# Altium footprint library zhangchong.PcbLib: 17 footprints (part 1 of 2)
Each footprint in its own frame and in the unit in brackets; x right, y up, seen from the top. Pads: shape width x height; smd on the part's side, far side on the other; paste and mask are expansions set on the pad; w line width, h text height; cw(c..) or ccw(c..) is an arc to the next point about the centre after c.
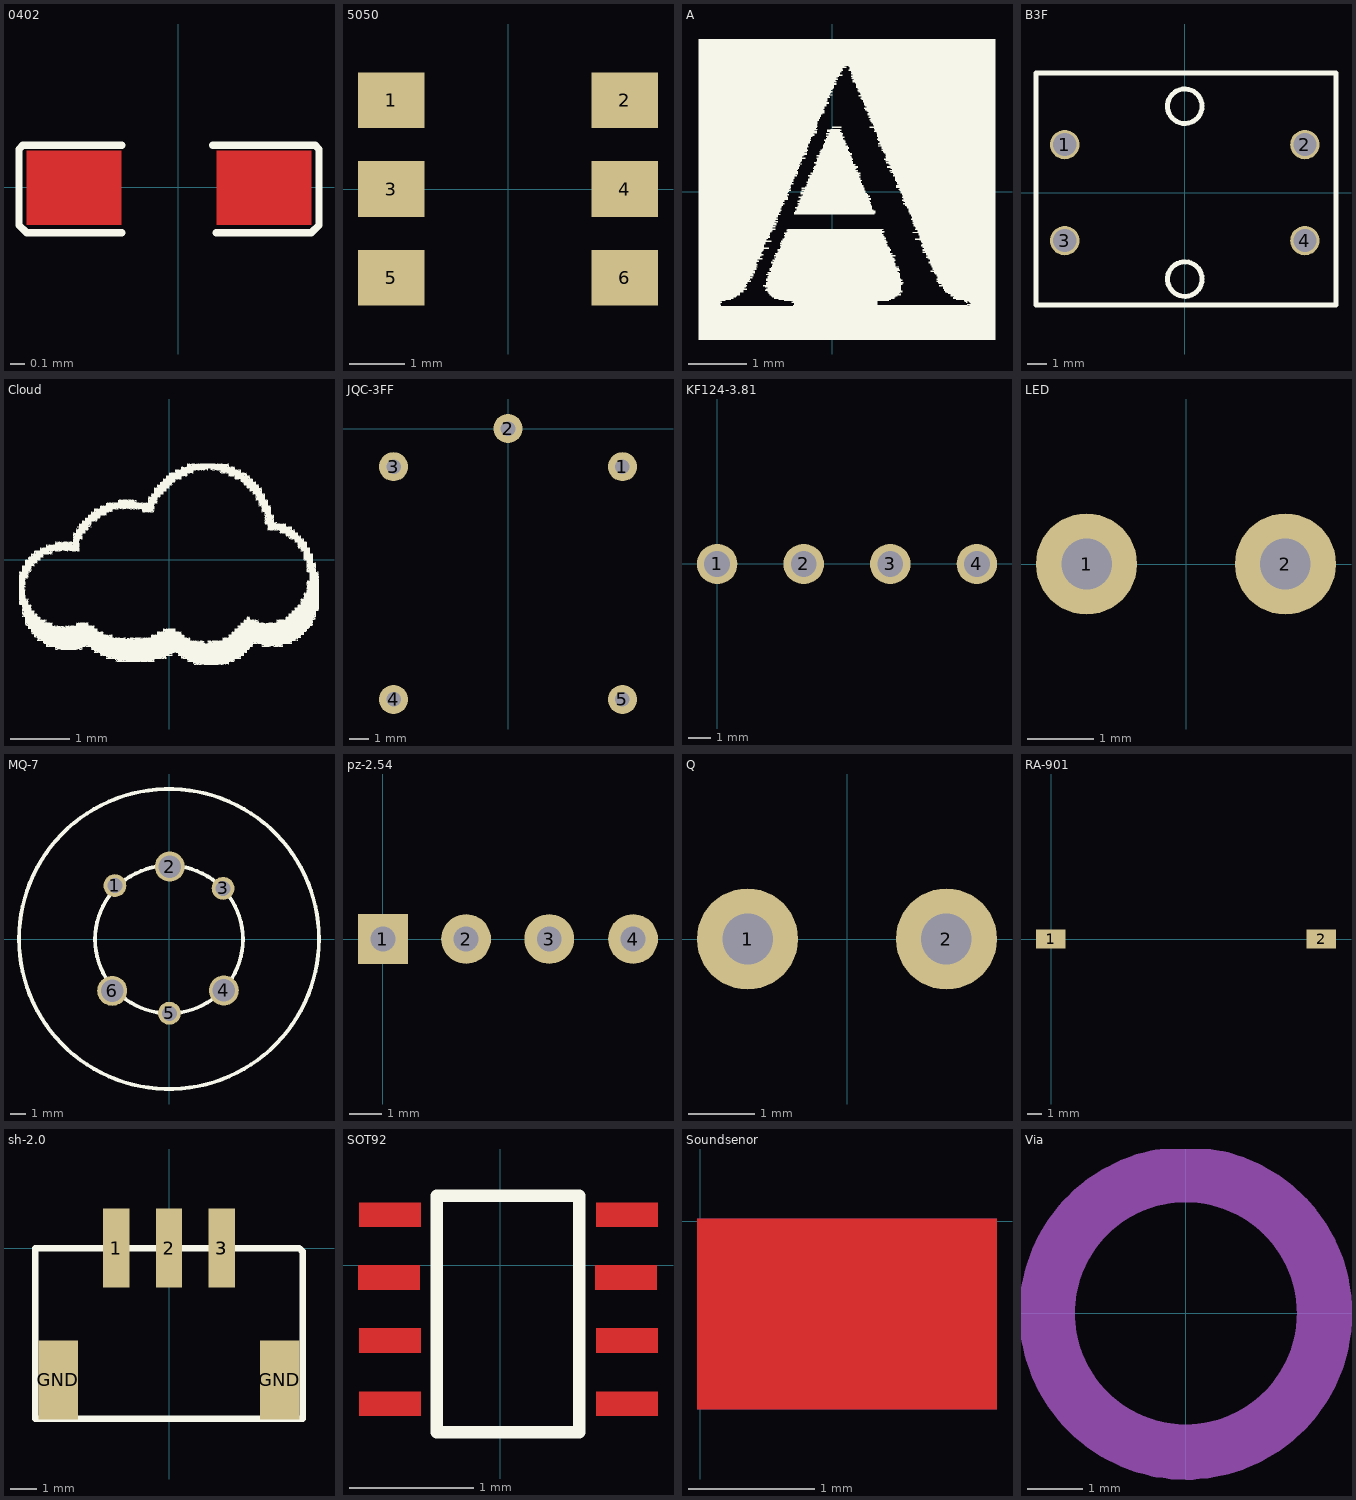
[diagram p0: the footprints below, top view; thin cyan lines are the x and y axes]

## 0402 [mm]
Top Layer:
  rectangle: 0.254,-0.254 0.889,0.246
  rectangle: -1.016,-0.254 -0.381,0.246
Top Overlay:
  lines w0.05: -0.381,-0.305 -1.016,-0.305 -1.067,-0.254 -1.067,0.254 -1.041,0.279 -0.381,0.279 ; 0.229,0.279 0.914,0.279 0.94,0.254 0.94,-0.254 0.889,-0.305 0.254,-0.305
Top Paste:
  rectangle: 0.254,-0.254 0.889,0.254
  rectangle: -1.016,-0.254 -0.381,0.254
Top Solder:
  rectangle: 0.254,-0.254 0.889,0.254
  rectangle: -1.016,-0.254 -0.381,0.254

## 5050 [mm]
pads (6):
  rect 1.2x1 smd: 1(-2.1,1.6) 2(2.1,1.6) 3(-2.1,0) 4(2.1,0) 5(-2.1,-1.6) 6(2.1,-1.6)

## A [mm]
Top Overlay:
  drawing of 1192 lines, arcs and shapes, not listed

## B3F [mm]
pads (4):
  round 1.524 hole 1.2: 1(-6.25,2.5) 2(6.25,2.5) 3(-6.25,-2.5) 4(6.25,-2.5)
Top Overlay:
  circle w0.254: c0,-4.5 r0.9
  circle w0.254: c0,4.5 r0.9
  lines w0.254: -7.747,-5.842 -7.747,6.223 7.874,6.223 7.874,-5.842 -7.747,-5.842

## Cloud [mm]
Top Overlay:
  drawing of 4885 lines, arcs and shapes, not listed

## JQC-3FF [mil]
pads (5):
  round 60 hole 30: 1(236.22,-78.74) 2(0,0) 3(-236.22,-78.74) 4(-236.22,-559.06) 5(236.22,-559.06)

## KF124-3.81 [mil]
pads (4):
  round 70 hole 45: 1(0,0) 2(150,0) 3(300,0) 4(450,0)

## LED [mil]
pads (2):
  round 60 hole 30: 1(-59.06,0) 2(59.06,0)

## MQ-7 [mil]
pads (6):
  round 60 hole 39.37: 1(-142,140) 3(142,133) 5(1,-195)
  round 78.74 hole 59.06: 2(2,190) 4(144,-135) 6(-149,-136)
Top Overlay:
  circle w10: c0,0 r393.7
  circle w10: c0,-1 r194

## pz-2.54 [mil]
pads (4):
  rect 60x60 hole 30: 1(0,0)
  round 60 hole 30: 2(100,0) 3(200,0) 4(300.79,0)

## Q [mil]
pads (2):
  round 60 hole 30: 1(-59.06,0) 2(59.06,0)

## RA-901 [mm]
pads (2):
  rect 2x1.3 smd: 1(-0.025,0) 2(18.2,0)

## sh-2.0 [mm]
pads (6):
  rect 1x3 smd: 1(-2,0) 2(0,0) 3(2,0) 3(2,0)
  rect 1.5x3 smd: GND(-4.2,-5) GND(4.2,-5)
Top Overlay:
  lines w0.254: -5.08,-6.477 -5.08,0 4.953,0 5.08,-0.127 5.08,-6.477 -5.08,-6.477

## SOT92 [mm]
Top Layer:
  rectangle: 0.77,0.305 1.27,0.505
  rectangle: 0.762,-0.2 1.262,0
  rectangle: 0.77,-0.708 1.27,-0.508
  rectangle: 0.77,-1.216 1.27,-1.016
  rectangle: -1.135,-1.216 -0.635,-1.016
  rectangle: -1.135,-0.708 -0.635,-0.508
  rectangle: -1.143,-0.2 -0.643,0
  rectangle: -1.135,0.305 -0.635,0.505
Top Overlay:
  lines w0.1: -0.508,-1.346 -0.508,0.559 0.635,0.559 0.635,-1.346 -0.508,-1.346

## Soundsenor [mm]
Top Layer:
  rectangle: -0.025,-1.499 2.362,0.025
Bottom Layer:
  rectangle: -0.025,-1.499 2.362,0.025

## Via [mm]
Top Solder:
  circle w1: c0,0 r2.5
Bottom Solder:
  circle w1: c0,0 r2.5
Multi-Layer:
  circle w0.4: c0.003,2.489 r0.2
  circle w0.4: c1.781,1.778 r0.2
  circle w2: c0,0 r1
  circle w0.4: c-1.749,1.778 r0.2
  circle w0.4: c-2.486,0.025 r0.2
  circle w0.4: c-1.8,-1.753 r0.2
  circle w0.4: c0.003,-2.515 r0.2
  circle w0.4: c1.756,-1.803 r0.2
  circle w0.4: c2.492,0 r0.2